# Altium footprint library Ultrasonido.PcbLib: 1 footprints
Each footprint in its own frame and in the unit in brackets; x right, y up, seen from the top. Pads: shape width x height; smd on the part's side, far side on the other; paste and mask are expansions set on the pad; w line width, h text height; cw(c..) or ccw(c..) is an arc to the next point about the centre after c.
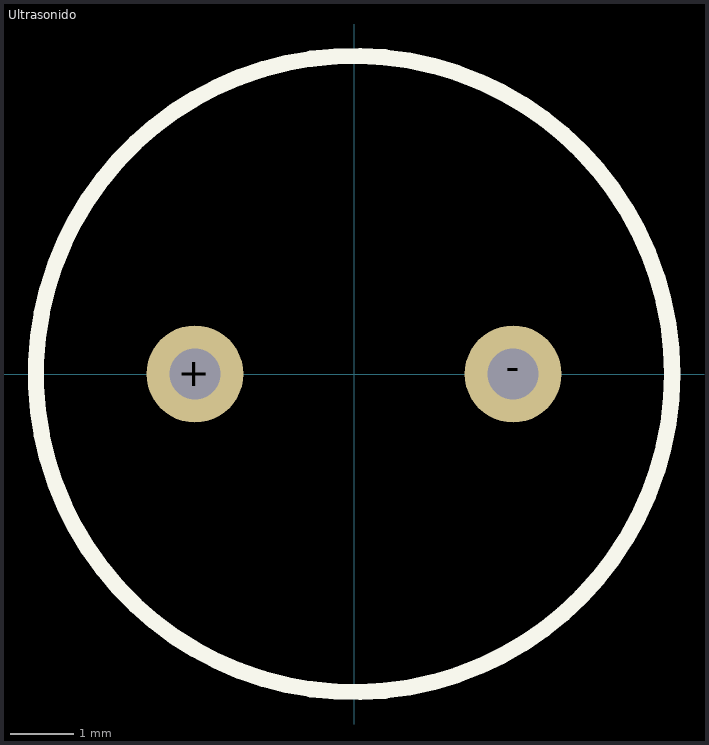
[diagram p0: the footprint, top view; thin cyan lines are the x and y axes]

## Ultrasonido [mil] "Modulo de 10mm"
pads (2):
  round 60 hole 31.5: +(-98.43,0) -(98.43,0)
Top Overlay:
  circle w10: c0,0 r196.85
3D body: height 472.44, standoff 0, extent -198.7,-198.7 195,195